# Altium footprint library CM.PcbLib: 72 footprints (part 3 of 5)
Each footprint in its own frame and in the unit in brackets; x right, y up, seen from the top. Pads: shape width x height; smd on the part's side, far side on the other; paste and mask are expansions set on the pad; w line width, h text height; cw(c..) or ccw(c..) is an arc to the next point about the centre after c.
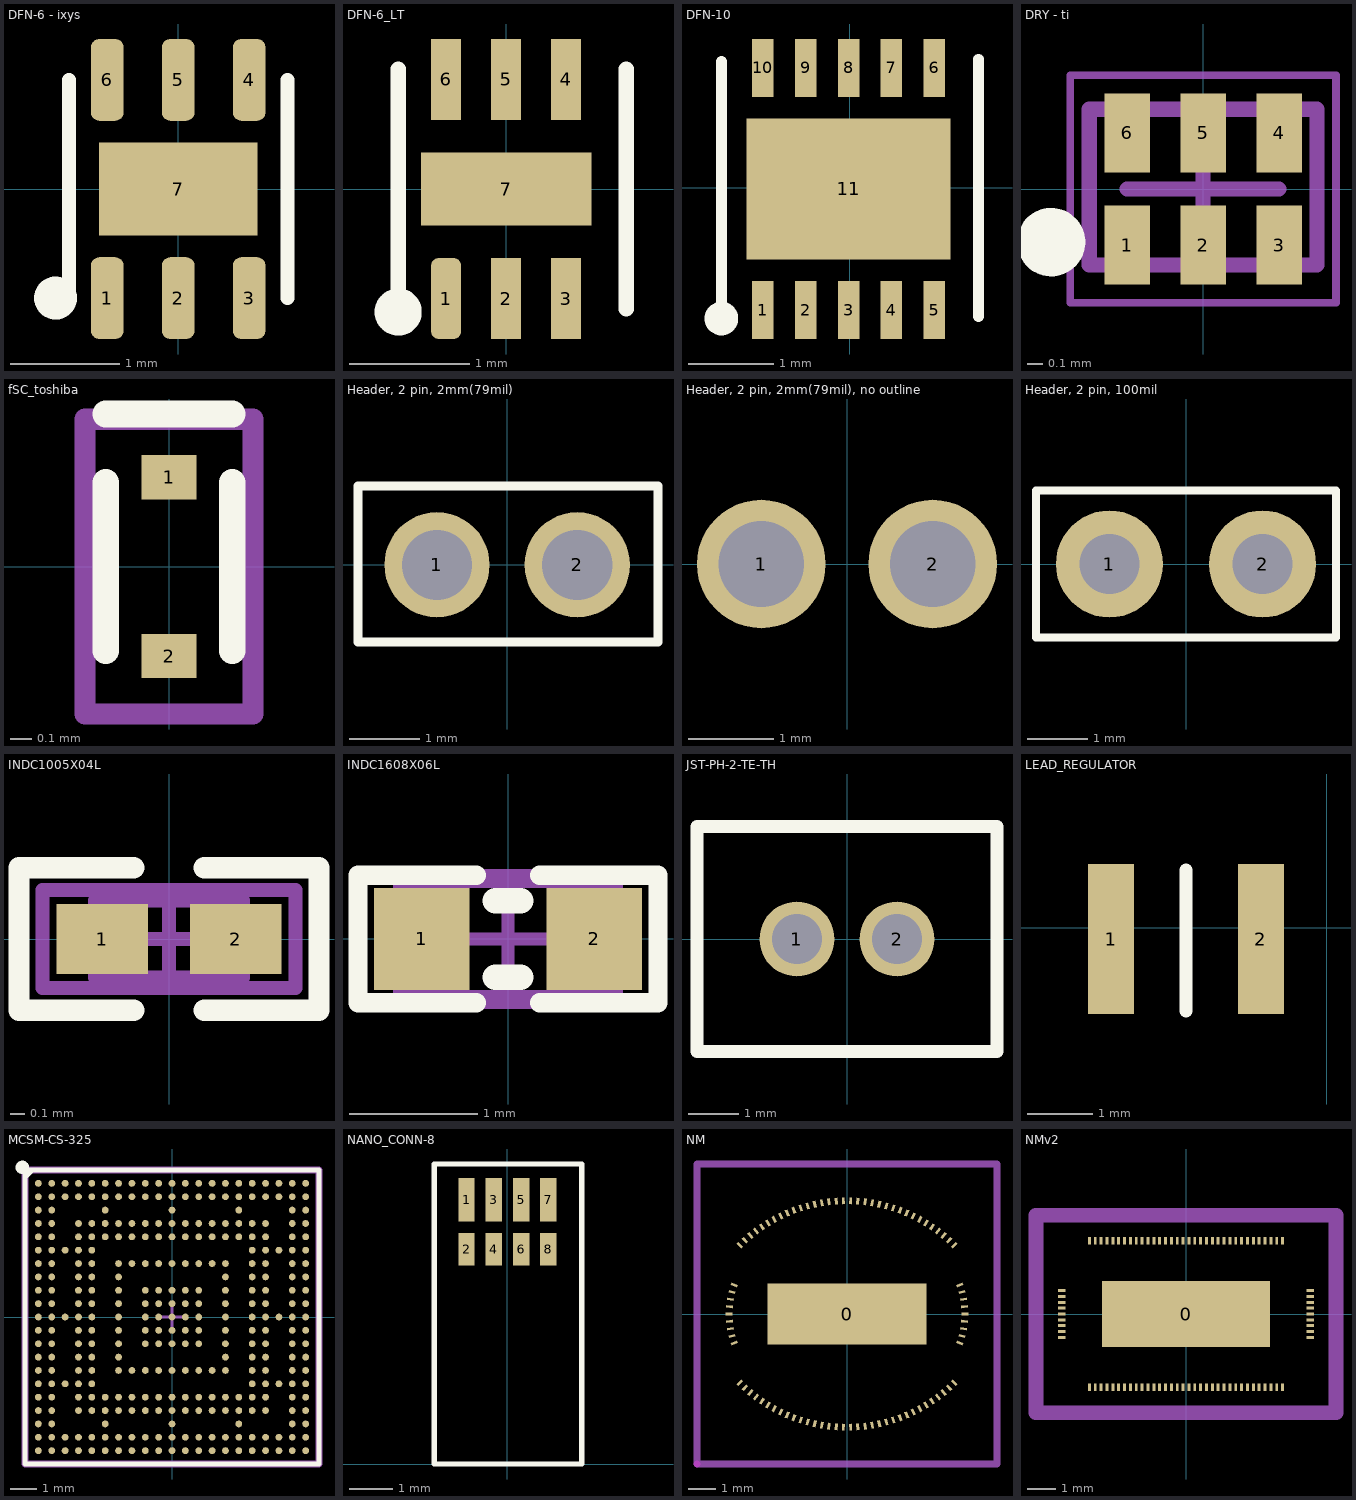
[diagram p2: the footprints below, top view; thin cyan lines are the x and y axes]

## DFN-6 - ixys [mm]
pads (7):
  rrect50% 0.3x0.75 smd paste-0.05 mask+0.05: 1(-0.65,-1) 2(0,-1) 3(0.65,-1) 4(0.65,1) 5(0,1) 6(-0.65,1)
  rect 1.45x0.85 smd paste-0.05 mask+0.05: 7(0,0)
Top Overlay:
  circle w0.254: c-1.125,-1 r0.069
  lines w0.127: -1,-1 -1,1 ; 1,-1 1,1

## DFN-6_LT [mm]
pads (7):
  rrect50% 0.25x0.675 smd paste-0.05 mask+0.05: 1(-0.5,-0.913)
  rect 0.25x0.675 smd paste-0.05 mask+0.05: 2(0,-0.913) 3(0.5,-0.913) 4(0.5,0.913) 5(0,0.913) 6(-0.5,0.913)
  rect 1.42x0.61 smd paste-0.05 mask+0.05: 7(0,0)
Top Overlay:
  circle w0.254: c-0.9,-1.025 r0.069
  lines w0.127: -0.9,-1 -0.9,1 ; 1,-1 1,1
3D body: height 0.75, standoff 0, extent -0.875,-1 1,1

## DFN-10 [mm]
pads (11):
  rect 0.25x0.675 smd paste-0.05 mask+0.05: 1(-1.016,-1.428) 2(-0.516,-1.428) 3(-0.016,-1.428) 4(0.484,-1.428) 5(0.984,-1.428) 6(0.984,1.397) 7(0.484,1.397) 8(-0.016,1.397) 9(-0.516,1.397) 10(-1.016,1.397)
  rect 2.38x1.65 smd paste-0.05 mask+0.05: 11(-0.016,-0.015)
Top Overlay:
  circle w0.254: c-1.5,-1.527 r0.069
  lines w0.127: -1.5,-1.527 -1.5,1.473 ; 1.5,-1.501 1.5,1.499

## DRY - ti [mm]
height 0.8
pads (6):
  rect 0.3x0.52 smd paste+0 mask+0.05: 1(-0.5,-0.37) 2(0,-0.37) 3(0.5,-0.37) 4(0.5,0.37) 5(0,0.37) 6(-0.5,0.37)
Top Overlay:
  circle w0.25: c-1,-0.35 r0.1
Mechanical 13:
  lines w0.1: -0.75,0.5 -0.75,-0.5 0.75,-0.5 0.75,0.5 ; -0.75,0.525 0.75,0.525
Mechanical 15:
  lines w0.05: -0.875,-0.75 0.875,-0.75 0.875,0.75 -0.875,0.75 -0.875,-0.75
  lines w0.1: -0.5,0 0.5,0 ; 0,-0.5 0,0.5
3D body: height 0.8, standoff 0.05, extent -0.75,-0.5 0.75,0.525

## fSC_toshiba [mm] "diode"
pads (2):
  rect 0.26x0.21 smd: 1(0,0.425) 2(0,-0.425)
Top Overlay:
  lines w0.127: -0.3,-0.4 -0.3,0.4 ; -0.3,0.725 0.3,0.725 ; 0.3,-0.4 0.3,0.4
Mechanical 13:
  lines w0.1: -0.4,-0.7 0.4,-0.7 0.4,0.7 -0.4,0.7 -0.4,-0.7

## Header, 2 pin, 2mm(79mil) [mm]
pads (2):
  round 1.5 hole 1: 1(-1,0) 2(1,0)
Top Overlay:
  lines w0.127: -2.125,-1.1 -2.125,1.125 2.15,1.125 2.15,-1.1 -2.125,-1.1

## Header, 2 pin, 2mm(79mil), no outline [mm]
pads (2):
  round 1.5 hole 1: 1(-1,0) 2(1,0)

## Header, 2 pin, 100mil [mil]
pads (2):
  round 70 hole 39.37: 1(-50,0) 2(50,0)
Top Overlay:
  lines w5: -98,-48 98,-48 98,48 -98,48 -98,-48

## INDC1005X04L [mm]
pads (2):
  rect 0.65x0.5 smd: 1(-0.475,0) 2(0.475,0)
Top Overlay:
  lines w0.152: -0.25,-0.508 -1.067,-0.508 -1.067,0.508 -0.25,0.508 ; 0.25,-0.508 1.067,-0.508 1.067,0.508 0.25,0.508
Mechanical 13:
  lines w0.1: -0.525,-0.275 0.525,-0.275 0.525,0.275 -0.525,0.275 -0.525,-0.275
Mechanical 15:
  lines w0.1: -0.275,0 0.275,0 ; 0,-0.275 0,0.275 ; -0.9,-0.35 0.9,-0.35 0.9,0.35 -0.9,0.35 -0.9,-0.35
3D body "User Library-Chip Inductor 0402.step": height 0.5, standoff 0, extent -0.5,-0.3 0.5,0.3

## INDC1608X06L [mm]
pads (2):
  rect 0.75x0.8 smd: 1(-0.675,0) 2(0.675,0)
Top Overlay:
  lines w0.152: -0.25,-0.5 -1.175,-0.5 -1.175,0.5 -0.25,0.5 ; 0.25,-0.5 1.175,-0.5 1.175,0.5 0.25,0.5
  lines w0.2: -0.1,-0.3 0.1,-0.3 ; -0.1,0.3 0.1,0.3
Mechanical 13:
  lines w0.1: -0.85,-0.45 0.85,-0.45 0.85,0.45 -0.85,0.45 -0.85,-0.45
Mechanical 15:
  lines w0.1: -0.45,0 0.45,0 ; 0,-0.45 0,0.45 ; -1.175,-0.5 -1.175,0.5 1.175,0.5 1.175,-0.5 -1.175,-0.5
3D body "User Library-Chip Inductor.step": height 0.8, standoff 0, extent -0.8,-0.475 0.8,0.475

## JST-PH-2-TE-TH [mm] "JST connector, PH type, 2 pin, top entry, through-hole"
pads (2):
  round 1.5 hole 1: 1(-1,0) 2(1,0)
Top Overlay:
  lines w0.254: -3,-2.25 3,-2.25 3,2.25 -3,2.25 -3,-2.25
3D body: height 6, standoff 0, extent -3,-2.25 3,2.25

## LEAD_REGULATOR [mm]
pads (2):
  rect 0.7x2.3 smd: 1(-3.308,-0.17) 2(-1.01,-0.17)
Top Overlay:
  lines w0.203: -2.159,-1.27 -2.159,0.889
3D body: height 1.1, standoff 0, extent -1.5,-1.2 -0.9,0.8
3D body: height 1.1, standoff 0, extent -3.4,-1.2 -2.8,0.8
3D body: height 1.1, standoff 0, extent -2.8,-1.2 -1.5,0.8

## MCSM-CS-325 [mil] "BGA, 325-Balls, Body 11x11mm, Pitch 0.5mm"
height 39.76
pads (325):
  round 10 smd: A1(-196.85,196.85) A2(-177.17,196.85) A3(-157.48,196.85) A4(-137.8,196.85) A5(-118.11,196.85) A6(-98.43,196.85) A7(-78.74,196.85) A8(-59.06,196.85) A9(-39.37,196.85) A10(-19.68,196.85) A11(0,196.85) A12(19.68,196.85) A13(39.37,196.85) A14(59.06,196.85) A15(78.74,196.85) A16(98.43,196.85) A17(118.11,196.85) A18(137.8,196.85) A19(157.48,196.85) A20(177.17,196.85) A21(196.85,196.85) AA1(-196.85,-196.85) AA2(-177.17,-196.85) AA3(-157.48,-196.85) AA4(-137.8,-196.85) AA5(-118.11,-196.85) AA6(-98.43,-196.85) AA7(-78.74,-196.85) AA8(-59.06,-196.85) AA9(-39.37,-196.85) AA10(-19.68,-196.85) AA11(0,-196.85) AA12(19.68,-196.85) AA13(39.37,-196.85) AA14(59.06,-196.85) AA15(78.74,-196.85) AA16(98.43,-196.85) AA17(118.11,-196.85) AA18(137.8,-196.85) AA19(157.48,-196.85) AA20(177.17,-196.85) AA21(196.85,-196.85) B1(-196.85,177.17) B2(-177.17,177.17) B3(-157.48,177.17) B4(-137.8,177.17) B5(-118.11,177.17) B6(-98.43,177.17) B7(-78.74,177.17) B8(-59.06,177.17) B9(-39.37,177.17) B10(-19.68,177.17) B11(0,177.17) B12(19.68,177.17) B13(39.37,177.17) B14(59.06,177.17) B15(78.74,177.17) B16(98.43,177.17) B17(118.11,177.17) B18(137.8,177.17) B19(157.48,177.17) B20(177.17,177.17) B21(196.85,177.17) C1(-196.85,157.48) C2(-177.17,157.48) C6(-98.43,157.48) C11(0,157.48) C16(98.43,157.48) C20(177.17,157.48) C21(196.85,157.48) D1(-196.85,137.8) D2(-177.17,137.8) D4(-137.8,137.8) D5(-118.11,137.8) D6(-98.43,137.8) D7(-78.74,137.8) D8(-59.06,137.8) D9(-39.37,137.8) D10(-19.68,137.8) D11(0,137.8) D12(19.68,137.8) D13(39.37,137.8) D14(59.06,137.8) D15(78.74,137.8) D16(98.43,137.8) D17(118.11,137.8) D18(137.8,137.8) D20(177.17,137.8) D21(196.85,137.8) E1(-196.85,118.11) E2(-177.17,118.11) E4(-137.8,118.11) E5(-118.11,118.11) E6(-98.43,118.11) E7(-78.74,118.11) E8(-59.06,118.11) E9(-39.37,118.11) E10(-19.68,118.11) E11(0,118.11) E12(19.68,118.11) E13(39.37,118.11) E14(59.06,118.11) E15(78.74,118.11) E16(98.43,118.11) E17(118.11,118.11) E18(137.8,118.11) E20(177.17,118.11) E21(196.85,118.11) F1(-196.85,98.43) F2(-177.17,98.43) F3(-157.48,98.43) F4(-137.8,98.43) F5(-118.11,98.43) F17(118.11,98.43) F18(137.8,98.43) F19(157.48,98.43) F20(177.17,98.43) F21(196.85,98.43) G1(-196.85,78.74) G2(-177.17,78.74) G4(-137.8,78.74) G5(-118.11,78.74) G7(-78.74,78.74) G8(-59.06,78.74) G9(-39.37,78.74) G10(-19.68,78.74) G11(0,78.74) G12(19.68,78.74) G13(39.37,78.74) G14(59.06,78.74) G15(78.74,78.74) G17(118.11,78.74) G18(137.8,78.74) G20(177.17,78.74) G21(196.85,78.74) H1(-196.85,59.06) H2(-177.17,59.06) H4(-137.8,59.06) H5(-118.11,59.06) H7(-78.74,59.06) H15(78.74,59.06) H17(118.11,59.06) H18(137.8,59.06) H20(177.17,59.06) H21(196.85,59.06) J1(-196.85,39.37) J2(-177.17,39.37) J4(-137.8,39.37) J5(-118.11,39.37) J7(-78.74,39.37) J9(-39.37,39.37) J10(-19.68,39.37) J11(0,39.37) J12(19.68,39.37) J13(39.37,39.37) J15(78.74,39.37) J17(118.11,39.37) J18(137.8,39.37) J20(177.17,39.37) J21(196.85,39.37) K1(-196.85,19.68) K2(-177.17,19.68) K4(-137.8,19.68) K5(-118.11,19.68) K7(-78.74,19.68) K9(-39.37,19.68) K10(-19.68,19.68) K11(0,19.68) K12(19.68,19.68) K13(39.37,19.68) K15(78.74,19.68) K17(118.11,19.68) K18(137.8,19.68) K20(177.17,19.68) K21(196.85,19.68) L1(-196.85,0) L2(-177.17,0) L3(-157.48,0) L4(-137.8,0) L5(-118.11,0) L7(-78.74,0) L9(-39.37,0) L10(-19.68,0) L11(0,0) L12(19.68,0) L13(39.37,0) L15(78.74,0) L17(118.11,0) L18(137.8,0) L19(157.48,0) L20(177.17,0) L21(196.85,0) M1(-196.85,-19.68) M2(-177.17,-19.68) M4(-137.8,-19.68) M5(-118.11,-19.68) M7(-78.74,-19.68) M9(-39.37,-19.68) M10(-19.68,-19.68) M11(0,-19.68) M12(19.68,-19.68) M13(39.37,-19.68) M15(78.74,-19.68) M17(118.11,-19.68) M18(137.8,-19.68) M20(177.17,-19.68) M21(196.85,-19.68) N1(-196.85,-39.37) N2(-177.17,-39.37) N4(-137.8,-39.37) N5(-118.11,-39.37) N7(-78.74,-39.37) N9(-39.37,-39.37) N10(-19.68,-39.37) N11(0,-39.37) N12(19.68,-39.37) N13(39.37,-39.37) N15(78.74,-39.37) N17(118.11,-39.37) N18(137.8,-39.37) N20(177.17,-39.37) N21(196.85,-39.37) P1(-196.85,-59.06) P2(-177.17,-59.06) P4(-137.8,-59.06) P5(-118.11,-59.06) P7(-78.74,-59.06) P15(78.74,-59.06) P17(118.11,-59.06) P18(137.8,-59.06) P20(177.17,-59.06) P21(196.85,-59.06) R1(-196.85,-78.74) R2(-177.17,-78.74) R4(-137.8,-78.74) R5(-118.11,-78.74) R7(-78.74,-78.74) R8(-59.06,-78.74) R9(-39.37,-78.74) R10(-19.68,-78.74) R11(0,-78.74) R12(19.68,-78.74) R13(39.37,-78.74) R14(59.06,-78.74) R15(78.74,-78.74) R17(118.11,-78.74) R18(137.8,-78.74) R20(177.17,-78.74) R21(196.85,-78.74) T1(-196.85,-98.43) T2(-177.17,-98.43) T3(-157.48,-98.43) T4(-137.8,-98.43) T5(-118.11,-98.43) T17(118.11,-98.43) T18(137.8,-98.43) T19(157.48,-98.43) T20(177.17,-98.43) T21(196.85,-98.43) U1(-196.85,-118.11) U2(-177.17,-118.11) U4(-137.8,-118.11) U5(-118.11,-118.11) U6(-98.43,-118.11) U7(-78.74,-118.11) U8(-59.06,-118.11) U9(-39.37,-118.11) U10(-19.68,-118.11) U11(0,-118.11) U12(19.68,-118.11) U13(39.37,-118.11) U14(59.06,-118.11) U15(78.74,-118.11) U16(98.43,-118.11) U17(118.11,-118.11) U18(137.8,-118.11) U20(177.17,-118.11) U21(196.85,-118.11) V1(-196.85,-137.8) V2(-177.17,-137.8) V4(-137.8,-137.8) V5(-118.11,-137.8) V6(-98.43,-137.8) V7(-78.74,-137.8) V8(-59.06,-137.8) V9(-39.37,-137.8) V10(-19.68,-137.8) V11(0,-137.8) V12(19.68,-137.8) V13(39.37,-137.8) V14(59.06,-137.8) V15(78.74,-137.8) V16(98.43,-137.8) V17(118.11,-137.8) V18(137.8,-137.8) V20(177.17,-137.8) V21(196.85,-137.8) W1(-196.85,-157.48) W2(-177.17,-157.48) W6(-98.43,-157.48) W11(0,-157.48) W16(98.43,-157.48) W20(177.17,-157.48) W21(196.85,-157.48) Y1(-196.85,-177.17) Y2(-177.17,-177.17) Y3(-157.48,-177.17) Y4(-137.8,-177.17) Y5(-118.11,-177.17) Y6(-98.43,-177.17) Y7(-78.74,-177.17) Y8(-59.06,-177.17) Y9(-39.37,-177.17) Y10(-19.68,-177.17) Y11(0,-177.17) Y12(19.68,-177.17) Y13(39.37,-177.17) Y14(59.06,-177.17) Y15(78.74,-177.17) Y16(98.43,-177.17) Y17(118.11,-177.17) Y18(137.8,-177.17) Y19(157.48,-177.17) Y20(177.17,-177.17) Y21(196.85,-177.17)
Top Overlay:
  circle w10: c-220.47,220.47 r4.92
  region: -206.4,216.54 -216.54,206.4 -216.54,216.54
  lines w8: -216.54,206.4 -206.4,216.54 ; -216.54,-216.54 -216.54,216.54 216.54,216.54 216.54,-216.54 -216.54,-216.54
Mechanical 13:
  lines w10: -216.54,-216.54 -216.54,216.54 216.54,216.54 216.54,-216.54 -216.54,-216.54
Mechanical 15:
  lines w3.94: -19.68,0 19.68,0 ; 0,-19.68 0,19.68
3D body: height 39.76, standoff 5.91, extent -216.54,-216.54 216.54,216.54

## NANO_CONN-8 [mil]
pads (8):
  rect 15x40 smd paste-1.97 mask+1.97: 1(-37.5,242.13) 3(-12.5,242.13) 5(12.5,242.13) 7(37.5,242.13)
  rect 15x30 smd paste-1.97 mask+1.97: 2(-37.5,196.85) 4(-12.5,196.85) 6(12.5,196.85) 8(37.5,196.85)
Top Overlay:
  lines w5: -67,0 68,0 68,275 -67,275 -67,0

## NM [mil] "Neuromodulator"
pads (87):
  rect 230x88 smd: 0(0,0)
  rect 4x10 smd rot 70: 1(-162.8,41.89) 44(162.8,-41.89)
  rect 4x10 smd rot 75: 2(-165.98,31.69) 45(165.98,-31.69)
  rect 4x10 smd rot 80: 3(-168.31,21.26) 46(168.31,-21.26)
  rect 4x10 smd rot 85: 4(-169.69,10.67) 47(169.69,-10.67)
  rect 10x4 smd: 5(-170.16,0) 48(170.16,0)
  rect 4x10 smd rot 95: 6(-169.69,-10.67) 49(169.69,10.67)
  rect 4x10 smd rot 100: 7(-168.31,-21.26) 50(168.31,21.26)
  rect 4x10 smd rot 105: 8(-165.98,-31.69) 51(165.98,31.69)
  rect 4x10 smd rot 110: 9(-162.8,-41.89) 52(162.8,41.89)
  rect 4x10 smd rot 135: 10(-154.96,-99.29) 53(154.96,99.29)
  rect 4x10 smd rot 138: 11(-147.4,-106.5) 54(147.4,106.5)
  rect 4x10 smd rot 140: 12(-139.53,-113.31) 55(139.53,113.31)
  rect 4x10 smd rot 143: 13(-131.34,-119.76) 56(131.34,119.76)
  rect 4x10 smd rot 146: 14(-122.83,-125.83) 57(122.83,125.83)
  rect 4x10 smd rot 149: 15(-114.06,-131.46) 58(114.06,131.46)
  rect 4x10 smd rot 151: 16(-105.04,-136.65) 59(105.04,136.65)
  rect 4x10 smd rot 154: 17(-95.75,-141.54) 60(95.75,141.54)
  rect 4x10 smd rot 157: 18(-86.26,-145.79) 61(86.26,145.79)
  rect 4x10 smd rot 160: 19(-76.57,-149.65) 62(76.57,149.65)
  rect 4x10 smd rot 162: 20(-66.73,-153.07) 63(66.73,153.07)
  rect 4x10 smd rot 165: 21(-56.73,-155.98) 64(56.73,155.98)
  rect 4x10 smd rot 168: 22(-46.57,-158.46) 65(46.57,158.46)
  rect 4x10 smd rot 170: 23(-36.34,-160.43) 66(36.34,160.43)
  rect 4x10 smd rot 173: 24(-26.02,-161.93) 67(26.02,161.93)
  rect 4x10 smd rot 176: 25(-15.63,-162.91) 68(15.63,162.91)
  rect 4x10 smd rot 179: 26(-5.2,-163.43) 69(5.2,163.43)
  rect 4x10 smd rot 1: 27(5.2,-163.43) 70(-5.2,163.43)
  rect 4x10 smd rot 4: 28(15.63,-162.91) 71(-15.63,162.91)
  rect 4x10 smd rot 7: 29(26.02,-161.93) 72(-26.02,161.93)
  rect 4x10 smd rot 10: 30(36.34,-160.43) 73(-36.34,160.43)
  rect 4x10 smd rot 12: 31(46.57,-158.46) 74(-46.57,158.46)
  rect 4x10 smd rot 15: 32(56.73,-155.98) 75(-56.73,155.98)
  rect 4x10 smd rot 18: 33(66.73,-153.07) 76(-66.73,153.07)
  rect 4x10 smd rot 20: 34(76.57,-149.65) 77(-76.57,149.65)
  rect 4x10 smd rot 23: 35(86.26,-145.79) 78(-86.26,145.79)
  rect 4x10 smd rot 26: 36(95.75,-141.54) 79(-95.75,141.54)
  rect 4x10 smd rot 29: 37(105.04,-136.65) 80(-105.04,136.65)
  rect 4x10 smd rot 31: 38(114.06,-131.46) 81(-114.06,131.46)
  rect 4x10 smd rot 34: 39(122.83,-125.83) 82(-122.83,125.83)
  rect 4x10 smd rot 37: 40(131.34,-119.76) 83(-131.34,119.76)
  rect 4x10 smd rot 40: 41(139.53,-113.31) 84(-139.53,113.31)
  rect 4x10 smd rot 42: 42(147.4,-106.5) 85(-147.4,106.5)
  rect 4x10 smd rot 45: 43(154.96,-99.29) 86(-154.96,99.29)
Keep-Out Layer:
  lines w10: -216.54,-216.53 -216.53,-216.53
Mechanical 13:
  lines w10: -216.53,-216.53 216.54,-216.53 216.54,216.54 -216.54,216.54 -216.54,-216.53

## NMv2 [mil]
pads (87):
  rect 230x90 smd paste-250: 0(0,0)
  rect 10x4 smd paste-10: 1(-170,32) 2(-170,24) 3(-170,16) 4(-170,8) 5(-170,0) 6(-170,-8) 7(-170,-16) 8(-170,-24) 9(-170,-32) 44(170,-32) 45(170,-24) 46(170,-16) 47(170,-8) 48(170,0) 49(170,8) 50(170,16) 51(170,24) 52(170,32)
  rect 4x10 smd paste-10: 10(-132,-100) 11(-124,-100) 12(-116,-100) 13(-108,-100) 14(-100,-100) 15(-92,-100) 16(-84,-100) 17(-76,-100) 18(-68,-100) 19(-60,-100) 20(-52,-100) 21(-44,-100) 22(-36,-100) 23(-28,-100) 24(-20,-100) 25(-12,-100) 26(-4,-100) 27(4,-100) 28(12,-100) 29(20,-100) 30(28,-100) 31(36,-100) 32(44,-100) 33(52,-100) 34(60,-100) 35(68,-100) 36(76,-100) 37(84,-100) 38(92,-100) 39(100,-100) 40(108,-100) 41(116,-100) 42(124,-100) 43(132,-100) 53(132,100) 54(124,100) 55(116,100) 56(108,100) 57(100,100) 58(92,100) 59(84,100) 60(76,100) 61(68,100) 62(60,100) 63(52,100) 64(44,100) 65(36,100) 66(28,100) 67(20,100) 68(12,100) 69(4,100) 70(-4,100) 71(-12,100) 72(-20,100) 73(-28,100) 74(-36,100) 75(-44,100) 76(-52,100) 77(-60,100) 78(-68,100) 79(-76,100) 80(-84,100) 81(-92,100) 82(-100,100) 83(-108,100) 84(-116,100) 85(-124,100) 86(-132,100)
Mechanical 1:
  lines w20: -205,-135 205,-135 205,135 -205,135 -205,-135
3D body: height 19.68, standoff 0, extent -205,-135 205,135